# EAGLE library part DAC8871SBPW (library laserscanner)
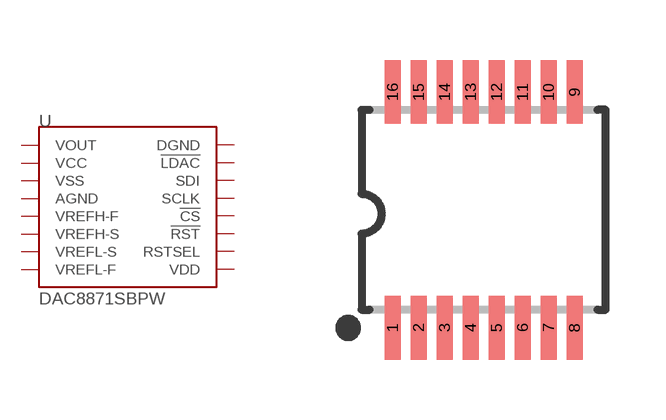
[diagram p2: symbol with the pads of TSSOP16; footprint TSSOP16]

Designator prefix -

## DAC8871SBPW  [TSSOP16]
1  VOUT
2  VCC
3  VSS
4  AGND
5  VREFH-F
6  VREFH-S
7  VREFL-S
8  VREFL-F
9  VDD
10  RSTSEL
11  !RST
12  !CS
13  SCLK
14  SDI
15  !LDAC
16  DGND

## Footprint TSSOP16 (pad centres in mm)
TSOP16 thin small outline package
smd 0.4 x 1.6: 1 -2.225,-2.85; 2 -1.575,-2.85; 3 -0.925,-2.85; 4 -0.275,-2.85; 5 0.375,-2.85; 6 1.025,-2.85; 7 1.675,-2.85; 8 2.325,-2.85; 9 2.325,3.05; 10 1.675,3.05; 11 1.025,3.05; 12 0.375,3.05; 13 -0.275,3.05; 14 -0.925,3.05; 15 -1.575,3.05; 16 -2.225,3.05